# Altium schematic symbol library Varistors PTH.SchLib: 3 symbols
Pins are listed as number, name and electrical type; pins without a type are passive.

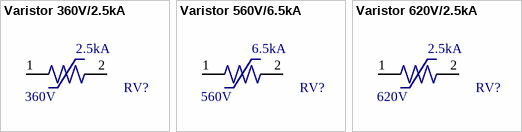
[diagram p0: symbols Varistor 360V/2.5kA to Varistor 620V/2.5kA]

## Varistor 360V/2.5kA
designator RV?  Voltage: 360V  Current: 2.5kA  (hidden comment: Varistor 360V/2.5kA)
360V 2.5kA Varistor 1 Circuit Through Hole Disc 10mm; Manufacturer 1: Bourns Inc.; Manufacturer 1 PN: MOV-10D361KTR; ComponentLink1Description: Datasheet; ComponentLink1URL: https://www.bourns.com/docs/Product-Datasheets/MOV10D.pdf; Digikey PN: MOV-10D361KTRCT-ND
footprint Varistor 360V/2.5kA (360V 2.5kA Varistor 1 Circuit Through Hole Disc 10mm)
pins: 1, 2

## Varistor 560V/6.5kA
designator RV?  Voltage: 560V  Current: 6.5kA  (hidden comment: Varistor 560V/6.5kA)
560V 6.5kA Varistor 1 Circuit Through Hole Disc 20mm; Manufacturer 1: Bourns Inc.; Manufacturer 1 PN: MOV-20D561KTR; Digikey PN: MOV-20D561KTRCT-ND; ComponentLink1Description: Datasheet; ComponentLink1URL: https://en.tdk-electronics.tdk.com/inf/70/db/var/SIOV_Leaded_StandarD.pdf; Mouser PN: 652-MOV-20D561KTR
footprint Varistor 560V/6.5kA (560V 6.5kA Varistor 1 Circuit Through Hole Disc 20mm)
pins: 1, 2

## Varistor 620V/2.5kA
designator RV?  Voltage: 620V  Current: 2.5kA  (hidden comment: Varistor 620V/2.5kA)
620V 2.5kA Varistor 1 Circuit Through Hole Disc 10mm; Manufacturer 1: EPCOS (TDK); Manufacturer 1 PN: B72210S0381K551; Digikey PN: 495-5967-2-ND; ComponentLink1Description: Datasheet; ComponentLink1URL: https://en.tdk-electronics.tdk.com/inf/70/db/var/SIOV_Leaded_StandarD.pdf
footprint Varistor 620V/2.5kA (620V 2.5kA Varistor 1 Circuit Through Hole Disc 10mm)
pins: 1, 2